# Altium footprint library Molex 2-pin.PcbLib: 1 footprints
Each footprint in its own frame and in the unit in brackets; x right, y up, seen from the top. Pads: shape width x height; smd on the part's side, far side on the other; paste and mask are expansions set on the pad; w line width, h text height; cw(c..) or ccw(c..) is an arc to the next point about the centre after c.
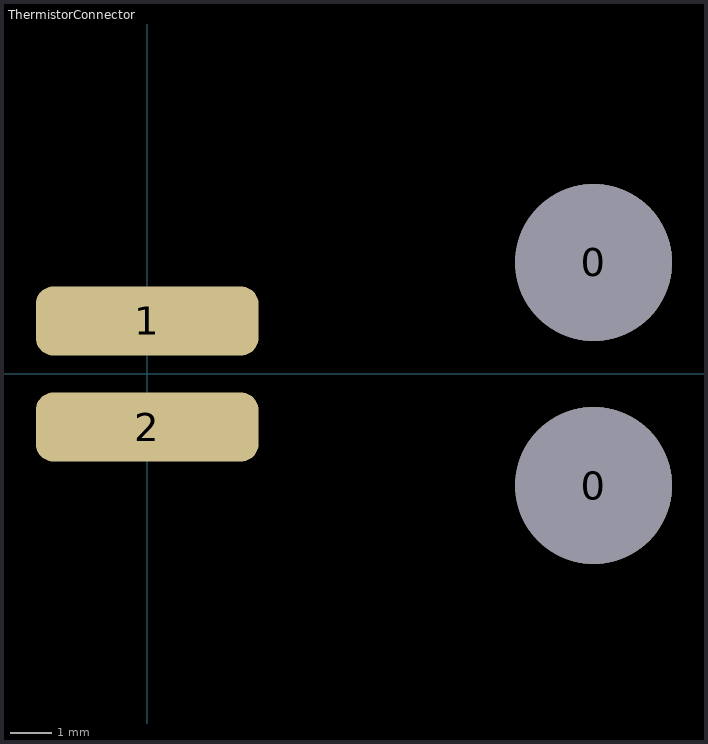
[diagram p0: the footprint, top view; thin cyan lines are the x and y axes]

## ThermistorConnector [mm] "2.54mm Pitch SL Wire-to-Board Header, Low Profile, Surface Mount, Single Row, Right-Angle, 3.05mm Pocket, Shrouded, with Press-fit Plastic Peg, 2 Circuits, Tin (Sn) Plating + SL Crimp Housing, Single Row, Version G, Positive Latch, 2 Circuits, Black"
pads (4):
  round 3.76 hole 3.76: 0(10.69,-2.67) 0(10.69,2.67)
  rrect50% 5.33x1.65 smd: 1(0,1.27) 2(0,-1.27)
3D body "Assem1.STEP": height 7.18, standoff -2.16, extent -1.891,-4.318 21.195,4.318